# EAGLE library part FDC6333 (library bnahill)
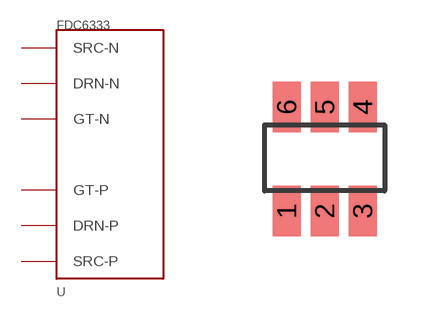
[diagram p3: symbol with the pads of SSOT-6; footprint SSOT-6]

Designator prefix -

## FDC6333  [SSOT-6]
1  GT-N
2  SRC-P
3  GT-P
4  DRN-P
5  SRC-N
6  DRN-N

## Footprint SSOT-6 (pad centres in mm)
smd 0.7 x 1.27: 1 -0.95,-1.3; 2 0,-1.3; 3 0.95,-1.3; 4 0.95,1.3; 5 0,1.3; 6 -0.95,1.3